# Altium footprint library con-hirose-df13.PCBLIB: 58 footprints (part 3 of 4)
Each footprint in its own frame and in the unit in brackets; x right, y up, seen from the top. Pads: shape width x height; smd on the part's side, far side on the other; paste and mask are expansions set on the pad; w line width, h text height; cw(c..) or ccw(c..) is an arc to the next point about the centre after c.
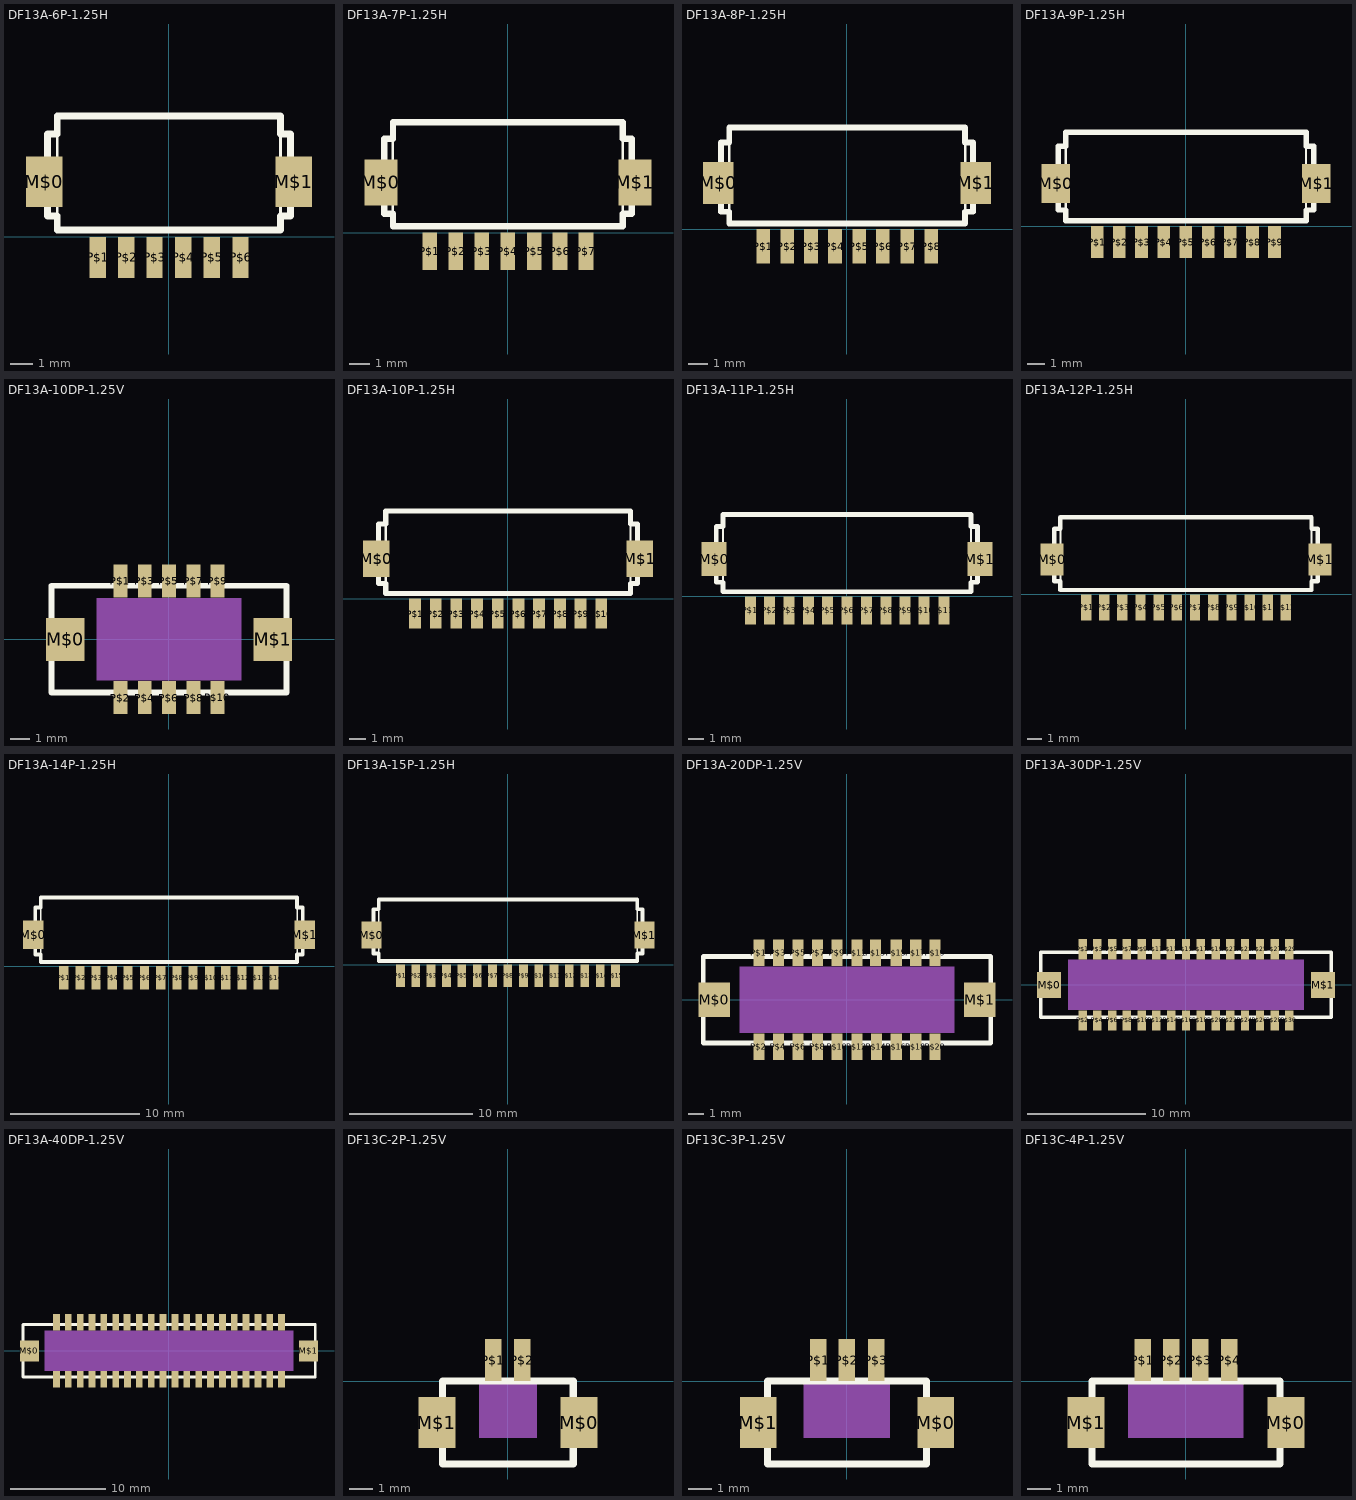
[diagram p2: the footprints below, top view; thin cyan lines are the x and y axes]

## DF13A-6P-1.25H [mil]
pads (8):
  rect 63x87 smd: M$0(-215.55,95) M$1(216,95)
  rect 28x71 smd: P$1(-123.03,-35.43) P$2(-73.82,-35.43) P$3(-24.61,-35.43) P$4(25,-35.43) P$5(74,-35.43) P$6(124,-35.43)
Top Overlay:
  lines w5: -192.91,36 -192.91,178 ; 193,36 193,178
  lines w12: -209.65,36 -209.65,178 -192.91,178 -192.91,209 193,209 193,178 210,178 210,36 193,36 193,12 -192.91,12 -192.91,36 -209.65,36
  text "." at -185.04,-73.82 h155

## DF13A-7P-1.25H [mil]
pads (9):
  rect 63x87 smd: M$0(-240.16,95) M$1(241,95)
  rect 28x71 smd: P$1(-147.64,-35.43) P$2(-98.43,-35.43) P$3(-49.21,-35.43) P$4(0,-35.43) P$5(50,-35.43) P$6(99,-35.43) P$7(148,-35.43)
Top Overlay:
  lines w5: -217.52,36 -217.52,178 ; 218,36 218,178
  lines w12: -234.25,36 -234.25,178 -217.52,178 -217.52,209 218,209 218,178 235,178 235,36 218,36 218,12 -217.52,12 -217.52,36 -234.25,36
  text "." at -209.65,-73.82 h155

## DF13A-8P-1.25H [mil]
pads (10):
  rect 63x87 smd: M$0(-264.76,95) M$1(265,95)
  rect 28x71 smd: P$1(-172.24,-35.43) P$2(-123.03,-35.43) P$3(-73.82,-35.43) P$4(-24.61,-35.43) P$5(25,-35.43) P$6(74,-35.43) P$7(124,-35.43) P$8(173,-35.43)
Top Overlay:
  lines w5: -242.13,36 -242.13,178 ; 243,36 243,178
  lines w12: -258.86,36 -258.86,178 -242.13,178 -242.13,209 243,209 243,178 259,178 259,36 243,36 243,12 -242.13,12 -242.13,36 -258.86,36
  text "." at -234.25,-73.82 h155

## DF13A-9P-1.25H [mil]
pads (11):
  rect 63x87 smd: M$0(-289.37,95) M$1(290,95)
  rect 28x71 smd: P$1(-196.85,-35.43) P$2(-147.64,-35.43) P$3(-98.43,-35.43) P$4(-49.21,-35.43) P$5(0,-35.43) P$6(50,-35.43) P$7(99,-35.43) P$8(148,-35.43) P$9(197,-35.43)
Top Overlay:
  lines w5: -266.73,36 -266.73,178 ; 267,36 267,178
  lines w12: -283.46,36 -283.46,178 -266.73,178 -266.73,209 267,209 267,178 284,178 284,36 267,36 267,12 -266.73,12 -266.73,36 -283.46,36
  text "." at -258.86,-73.82 h155

## DF13A-10DP-1.25V [mil]
pads (12):
  rect 79x87 smd: M$0(-210.63,0) M$1(211,0)
  rect 28x67 smd: P$1(-98.43,119) P$2(-98.43,-118.11) P$3(-49.21,119) P$4(-49.21,-118.11) P$5(0,119) P$6(0,-118.11) P$7(50,119) P$8(50,-118.11) P$9(99,119) P$10(99,-118.11)
Top Overlay:
  lines w12: -238.19,-108.27 239,-108.27 239,109 -238.19,109 -238.19,-108.27
  text "." at -172.24,148 h155
Mechanical 27:
  rectangle: -147.64,-83.66 148,84

## DF13A-10P-1.25H [mil]
pads (12):
  rect 63x87 smd: M$0(-313.98,95) M$1(314,95)
  rect 28x71 smd: P$1(-221.46,-35.43) P$2(-172.24,-35.43) P$3(-123.03,-35.43) P$4(-73.82,-35.43) P$5(-24.61,-35.43) P$6(25,-35.43) P$7(74,-35.43) P$8(124,-35.43) P$9(173,-35.43) P$10(222,-35.43)
Top Overlay:
  lines w5: -291.34,36 -291.34,178 ; 292,36 292,178
  lines w12: -308.07,36 -308.07,178 -291.34,178 -291.34,209 292,209 292,178 309,178 309,36 292,36 292,12 -291.34,12 -291.34,36 -308.07,36
  text "." at -283.46,-73.82 h155

## DF13A-11P-1.25H [mil]
pads (13):
  rect 63x87 smd: M$0(-338.58,95) M$1(339,95)
  rect 28x71 smd: P$1(-246.06,-35.43) P$2(-196.85,-35.43) P$3(-147.64,-35.43) P$4(-98.43,-35.43) P$5(-49.21,-35.43) P$6(0,-35.43) P$7(50,-35.43) P$8(99,-35.43) P$9(148,-35.43) P$10(197,-35.43) P$11(247,-35.43)
Top Overlay:
  lines w5: -315.94,36 -315.94,178 ; 316,36 316,178
  lines w12: -332.68,36 -332.68,178 -315.94,178 -315.94,209 316,209 316,178 333,178 333,36 316,36 316,12 -315.94,12 -315.94,36 -332.68,36
  text "." at -308.07,-73.82 h155

## DF13A-12P-1.25H [mil]
pads (14):
  rect 63x87 smd: M$0(-363.19,95) M$1(364,95)
  rect 28x71 smd: P$1(-270.67,-35.43) P$2(-221.46,-35.43) P$3(-172.24,-35.43) P$4(-123.03,-35.43) P$5(-73.82,-35.43) P$6(-24.61,-35.43) P$7(25,-35.43) P$8(74,-35.43) P$9(124,-35.43) P$10(173,-35.43) P$11(222,-35.43) P$12(271,-35.43)
Top Overlay:
  lines w5: -340.55,36 -340.55,178 ; 341,36 341,178
  lines w12: -357.28,36 -357.28,178 -340.55,178 -340.55,209 341,209 341,178 358,178 358,36 341,36 341,12 -340.55,12 -340.55,36 -357.28,36
  text "." at -332.68,-73.82 h155

## DF13A-14P-1.25H [mil]
pads (16):
  rect 63x87 smd: M$0(-412.4,95) M$1(413,95)
  rect 28x71 smd: P$1(-319.88,-35.43) P$2(-270.67,-35.43) P$3(-221.46,-35.43) P$4(-172.24,-35.43) P$5(-124.02,-35.43) P$6(-73.82,-35.43) P$7(-24.61,-35.43) P$8(25,-35.43) P$9(73,-35.43) P$10(124,-35.43) P$11(173,-35.43) P$12(222,-35.43) P$13(271,-35.43) P$14(320,-35.43)
Top Overlay:
  lines w5: -389.76,36 -389.76,178 ; 390,36 390,178
  lines w12: -406.5,36 -406.5,178 -389.76,178 -389.76,209 390,209 390,178 407,178 407,36 390,36 390,12 -389.76,12 -389.76,36 -406.5,36
  text "." at -381.89,-73.82 h155

## DF13A-15P-1.25H [mil]
pads (17):
  rect 63x87 smd: M$0(-437.01,95) M$1(438,95)
  rect 28x71 smd: P$1(-344.49,-35.43) P$2(-295.28,-35.43) P$3(-246.06,-35.43) P$4(-196.85,-35.43) P$5(-147.64,-35.43) P$6(-98.43,-35.43) P$7(-49.21,-35.43) P$8(0,-35.43) P$9(50,-35.43) P$10(99,-35.43) P$11(148,-35.43) P$12(197,-35.43) P$13(247,-35.43) P$14(296,-35.43) P$15(345,-35.43)
Top Overlay:
  lines w5: -414.37,36 -414.37,178 ; 415,36 415,178
  lines w12: -431.1,36 -431.1,178 -414.37,178 -414.37,209 415,209 415,178 432,178 432,36 415,36 415,12 -414.37,12 -414.37,36 -431.1,36
  text "." at -406.5,-73.82 h155

## DF13A-20DP-1.25V [mil]
pads (22):
  rect 79x87 smd: M$0(-333.66,0) M$1(334,0)
  rect 28x67 smd: P$1(-221.46,119) P$2(-221.46,-118.11) P$3(-172.24,119) P$4(-172.24,-118.11) P$5(-123.03,119) P$6(-123.03,-118.11) P$7(-73.82,119) P$8(-73.82,-118.11) P$9(-24.61,119) P$10(-24.61,-118.11) P$11(25,119) P$12(25,-118.11) P$13(72,119) P$14(74,-118.11) P$15(124,119) P$16(124,-118.11) P$17(173,119) P$18(173,-118.11) P$19(222,119) P$20(222,-118.11)
Top Overlay:
  lines w12: -361.22,-108.27 362,-108.27 362,109 -361.22,109 -361.22,-108.27
  text "." at -295.28,148 h155
Mechanical 27:
  rectangle: -270.67,-83.66 271,84

## DF13A-30DP-1.25V [mil]
pads (32):
  rect 79x87 smd: M$0(-456.69,0) M$1(457,0)
  rect 28x67 smd: P$1(-344.49,119) P$2(-344.49,-118.11) P$3(-295.28,119) P$4(-295.28,-118.11) P$5(-246.06,119) P$6(-246.06,-118.11) P$7(-196.85,119) P$8(-196.85,-118.11) P$9(-147.64,119) P$10(-147.64,-118.11) P$11(-98.43,119) P$12(-98.43,-118.11) P$13(-51.18,119) P$14(-49.21,-118.11) P$15(0,119) P$16(0,-118.11) P$17(50,119) P$18(50,-118.11) P$19(99,119) P$20(99,-118.11) P$21(148,119) P$22(148,-118.11) P$23(197,119) P$24(197,-118.11) P$25(247,119) P$26(247,-118.11) P$27(296,119) P$28(296,-118.11) P$29(345,119) P$30(345,-118.11)
Top Overlay:
  lines w12: -484.25,-108.27 485,-108.27 485,109 -484.25,109 -484.25,-108.27
  text "." at -418.31,148 h155
Mechanical 27:
  rectangle: -393.7,-83.66 394,84

## DF13A-40DP-1.25V [mil]
pads (42):
  rect 79x87 smd: M$0(-579.72,0) M$1(580,0)
  rect 28x67 smd: P$1(-467.52,119) P$2(-467.52,-118.11) P$3(-418.31,119) P$4(-418.31,-118.11) P$5(-369.09,119) P$6(-369.09,-118.11) P$7(-319.88,119) P$8(-319.88,-118.11) P$9(-270.67,119) P$10(-270.67,-118.11) P$11(-221.46,119) P$12(-221.46,-118.11) P$13(-174.21,119) P$14(-172.24,-118.11) P$15(-123.03,119) P$16(-123.03,-118.11) P$17(-73.82,119) P$18(-73.82,-118.11) P$19(-24.61,119) P$20(-24.61,-118.11) P$21(25,119) P$22(25,-118.11) P$23(74,119) P$24(74,-118.11) P$25(124,119) P$26(124,-118.11) P$27(173,119) P$28(173,-118.11) P$29(222,119) P$30(222,-118.11) P$31(271,119) P$32(271,-118.11) P$33(320,119) P$34(320,-118.11) P$35(370,119) P$36(370,-118.11) P$37(419,119) P$38(419,-118.11) P$39(468,119) P$40(468,-118.11)
Top Overlay:
  lines w12: -607.28,-108.27 608,-108.27 608,109 -607.28,109 -607.28,-108.27
  text "." at -541.34,148 h155
Mechanical 27:
  rectangle: -516.73,-83.66 517,84

## DF13C-2P-1.25V [mil]
pads (4):
  rect 63x87 smd: M$0(122,-70.87) M$1(-121.06,-70.87)
  rect 28x71 smd: P$1(-24.61,36) P$2(25,36)
Top Overlay:
  lines w12: -111.22,-141.73 112,-141.73 112,0 -111.22,0 -111.22,-141.73
  text "." at -87.6,61 h155
Mechanical 27:
  rectangle: -49.21,-97.24 50,-3.94

## DF13C-3P-1.25V [mil]
pads (5):
  rect 63x87 smd: M$0(152,-70.87) M$1(-151.57,-70.87)
  rect 28x71 smd: P$1(-49.21,36) P$2(0,36) P$3(50,36)
Top Overlay:
  lines w12: -135.83,-141.73 136,-141.73 136,0 -135.83,0 -135.83,-141.73
  text "." at -112.2,61 h155
Mechanical 27:
  rectangle: -73.82,-97.24 74,-3.94

## DF13C-4P-1.25V [mil]
pads (6):
  rect 63x87 smd: M$0(171,-70.87) M$1(-170.28,-70.87)
  rect 28x71 smd: P$1(-73.82,36) P$2(-24.61,36) P$3(25,36) P$4(74,36)
Top Overlay:
  lines w12: -160.43,-141.73 161,-141.73 161,0 -160.43,0 -160.43,-141.73
  text "." at -136.81,61 h155
Mechanical 27:
  rectangle: -98.43,-97.44 99,-3.94